# EAGLE library part CD4053BCM (library Fairchild_By_element14_Batch_1)
Analog Multiplexer/Demultiplexer
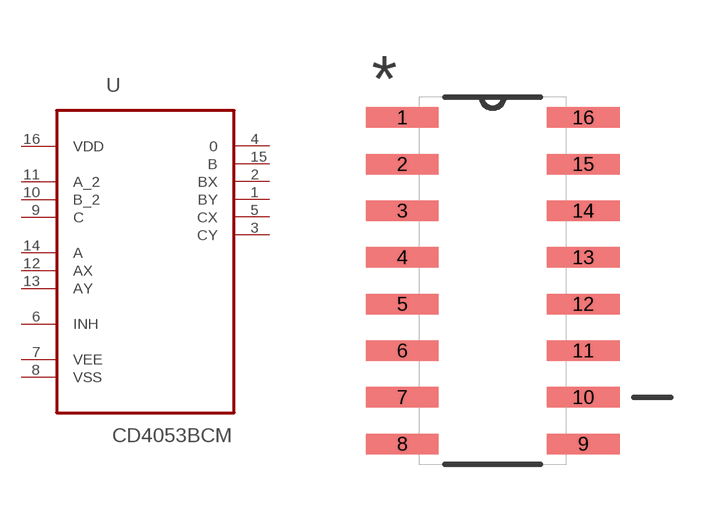
[diagram p165: symbol with the pads of SOIC127P600X175-16N; footprint SOIC127P600X175-16N]

Designator prefix U

## CD4053BCM (MPN: CD4053BCM; OC_FARNELL: 1014064; OC_NEWARK: 79K4321; PACKAGE: SOIC-16; SUPPLIER: Fairchild)  [SOIC127P600X175-16N]
1  BY
2  BX
3  CY
4  0
5  CX
6  INH  in
7  VEE  pas
8  VSS  pwr
9  C  in
10  B_2  in
11  A_2  in
12  AX
13  AY
14  A
15  B
16  VDD  pwr

## Footprint SOIC127P600X175-16N (pad centres in mm)
smd 1.981 x 0.559: 1 -2.464,4.445; 2 -2.464,3.175; 3 -2.464,1.905; 4 -2.464,0.635; 5 -2.464,-0.635; 6 -2.464,-1.905; 7 -2.464,-3.175; 8 -2.464,-4.445; 9 2.464,-4.445; 10 2.464,-3.175; 11 2.464,-1.905; 12 2.464,-0.635; 13 2.464,0.635; 14 2.464,1.905; 15 2.464,3.175; 16 2.464,4.445